# Altium schematic symbol library FT232RL-TUBE.SchLib: 1 symbol
Pins are listed as number, name and electrical type; pins without a type are passive.

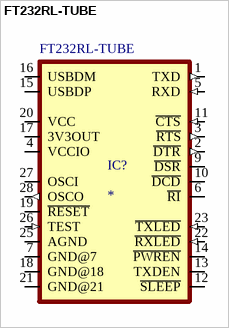
[diagram p0: symbol FT232RL-TUBE]

## FT232RL-TUBE
designator IC?
USB Bridge, USB to UART USB 2.0 UART Interface 28-SSOP; MP: FT232RL-TUBE; MF: FTDI,; Package: SSOP-28 FTDI; SnapEDA_Link: https://www.snapeda.com/parts/FT232RL-TUBE/FTDI%252C+Future+Technology+Devices+International+Ltd/view-part/?ref=snap; Purchase-URL: https://pricing.snapeda.com/search/part/FT232RL-TUBE/?ref=eda; Check_prices: https://www.snapeda.com/parts/FT232RL-TUBE/FTDI%252C+Future+Technology+Devices+International+Ltd/view-part/?ref=eda; Value: *; Digi-Key_Part_Number: 768-1306-ND
footprint SSOP28-LD
pins: 1 TXD (out), 2 ~{DTR} (out), 3 ~{RTS} (out), 4 VCCIO (power), 5 RXD (in), 6 ~{RI}, 7 GND@7 (power), 9 ~{DSR}, 10 ~{DCD}, 11 ~{CTS} (in), 12 ~{SLEEP}, 13 TXDEN, 14 ~{PWREN}, 15 USBDP (io), 16 USBDM (io), 17 3V3OUT (power), 18 GND@18 (power), 19 ~{RESET}, 20 VCC (power), 21 GND@21 (power), 22 ~{RXLED} (in), 23 ~{TXLED} (in), 25 AGND (power), 26 TEST (in), 27 OSCI, 28 OSCO (out)